# Altium footprint library 5.08mm2pin.PcbLib: 1 footprints
Each footprint in its own frame and in the unit in brackets; x right, y up, seen from the top. Pads: shape width x height; smd on the part's side, far side on the other; paste and mask are expansions set on the pad; w line width, h text height; cw(c..) or ccw(c..) is an arc to the next point about the centre after c.
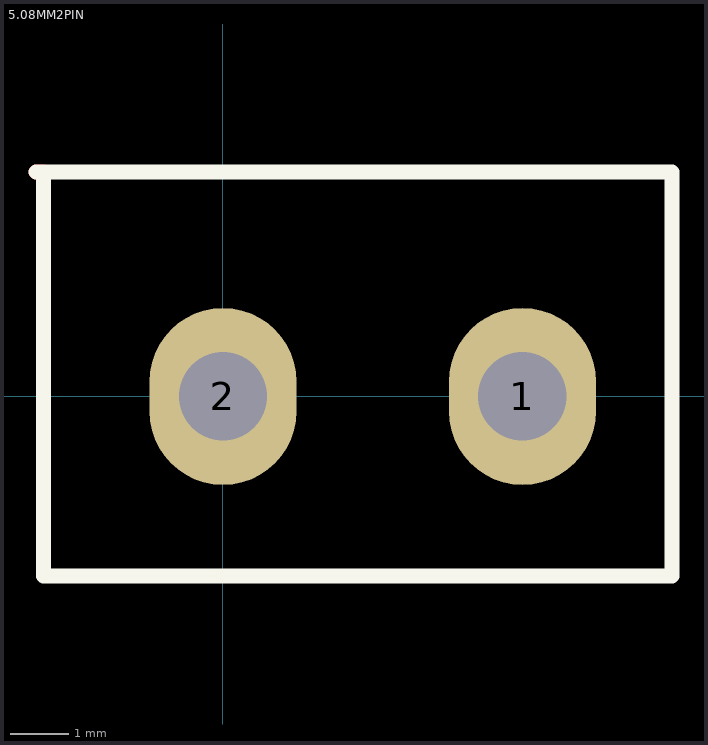
[diagram p0: the footprint, top view; thin cyan lines are the x and y axes]

## 5.08MM2PIN [mm] "cONNECTOR"
pads (2):
  oval 2.5x3 hole 1.5: 1(5.08,0) 2(0,0)
Top Layer:
  lines w0.254: -3.175,3.81 -3.048,3.81
Top Overlay:
  lines w0.254: -3.175,3.81 7.62,3.81 7.62,-3.048 -3.048,-3.048 -3.048,3.81